# Altium footprint library PIF_LCD1602_I2C.PcbLib: 1 footprints
Each footprint in its own frame and in the unit in brackets; x right, y up, seen from the top. Pads: shape width x height; smd on the part's side, far side on the other; paste and mask are expansions set on the pad; w line width, h text height; cw(c..) or ccw(c..) is an arc to the next point about the centre after c.
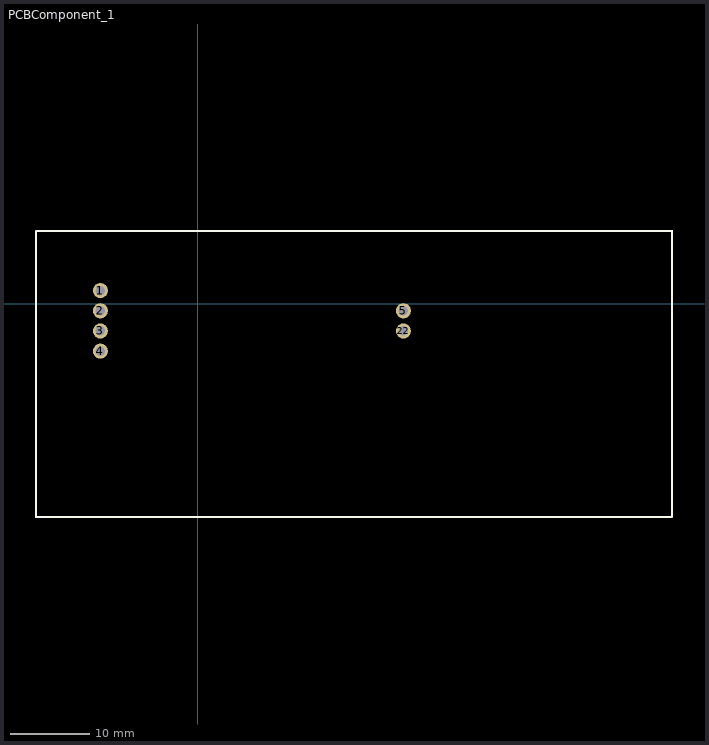
[diagram p0: the footprint, top view; thin cyan lines are the x and y axes]

## PCBComponent_1 [mm]
pads (6):
  round 1.9 hole 1.2 mask+0.102: 1(-12.229,1.685)
  round 1.9 hole 1.2: 2(-12.229,-0.855) 3(-12.229,-3.395) 4(-12.229,-5.935) 5(25.871,-0.855) 22(25.871,-3.395)
Top Overlay:
  lines w0.254: -20.341,9.2 59.663,9.2 59.664,9.198 59.664,-26.81 59.664,-26.809 -20.33,-26.809 -20.34,-26.799 -20.34,9.198
3D body "LCD AP214.STEP": height 9.8, standoff -12.83, extent -20.336,-26.811 59.664,9.189